# Altium schematic symbol library Z02W22VY.SchLib: 1 symbol
Pins are listed as number, name and electrical type; pins without a type are passive.

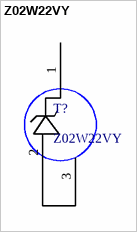
[diagram p0: symbol Z02W22VY]

## Z02W22VY
designator T?
footprint Z02W22VY
pins: 1 64, 2, 3